# EAGLE library part JP_PANEL (library snes_div)
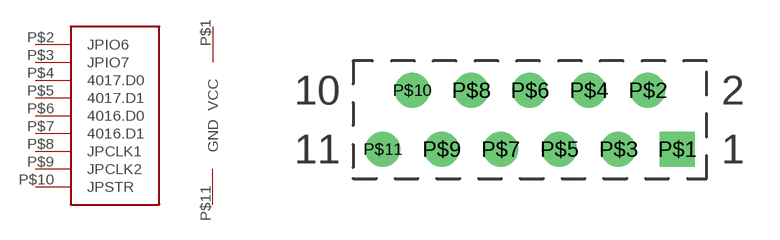
[diagram p11: symbol with the pads of JP_PANEL; footprint JP_PANEL]

Designator prefix -; gates G$1=JP_PANEL G$2=PWR

## JP_PANEL  [JP_PANEL]
P$1  G$2:VCC
P$2  G$1:JPIO6
P$3  G$1:JPIO7
P$4  G$1:4017.D0
P$5  G$1:4017.D1
P$6  G$1:4016.D0
P$7  G$1:4016.D1
P$8  G$1:JPCLK1
P$9  G$1:JPCLK2
P$10  G$1:JPSTR
P$11  G$2:GND

## Footprint JP_PANEL (pad centres in mm)
drill 1 square: P$1 6.35,-1.27
drill 1: P$2 5.08,1.27; P$3 3.81,-1.27; P$4 2.54,1.27; P$5 1.27,-1.27; P$6 0,1.27; P$7 -1.27,-1.27; P$8 -2.54,1.27; P$9 -3.81,-1.27; P$10 -5.08,1.27; P$11 -6.35,-1.27